# Altium schematic symbol library ElecSystem-Tom.SchLib: 5 symbols
Pins are listed as number, name and electrical type; pins without a type are passive.

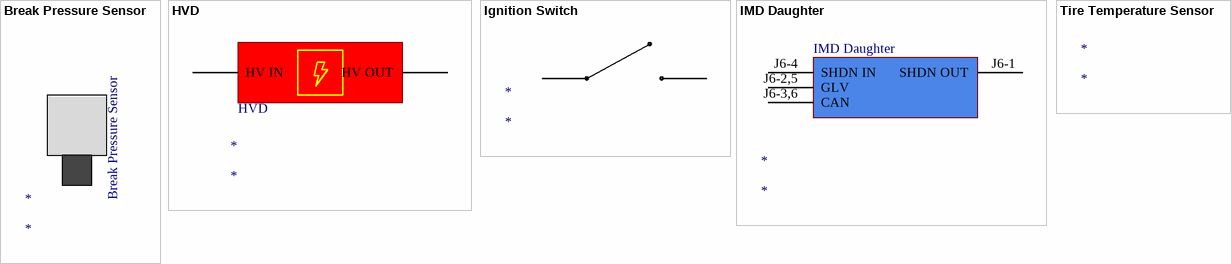
[diagram p0: symbols Break Pressure Sensor to Tire Temperature Sensor]

## Break Pressure Sensor
designator *

## HVD
designator *
pins: ?1 HV IN, ?2 HV OUT

## Ignition Switch
designator *
pins: ?1, ?2

## IMD Daughter
designator *
pins: J6-1 SHDN OUT, J6-2,5 GLV, J6-3,6 CAN, J6-4 SHDN IN

## Tire Temperature Sensor
designator *